# Altium footprint library Altium Example Master PCB Library End.PcbLib: 217 footprints (part 14 of 14)
Each footprint in its own frame and in the unit in brackets; x right, y up, seen from the top. Pads: shape width x height; smd on the part's side, far side on the other; paste and mask are expansions set on the pad; w line width, h text height; cw(c..) or ccw(c..) is an arc to the next point about the centre after c.
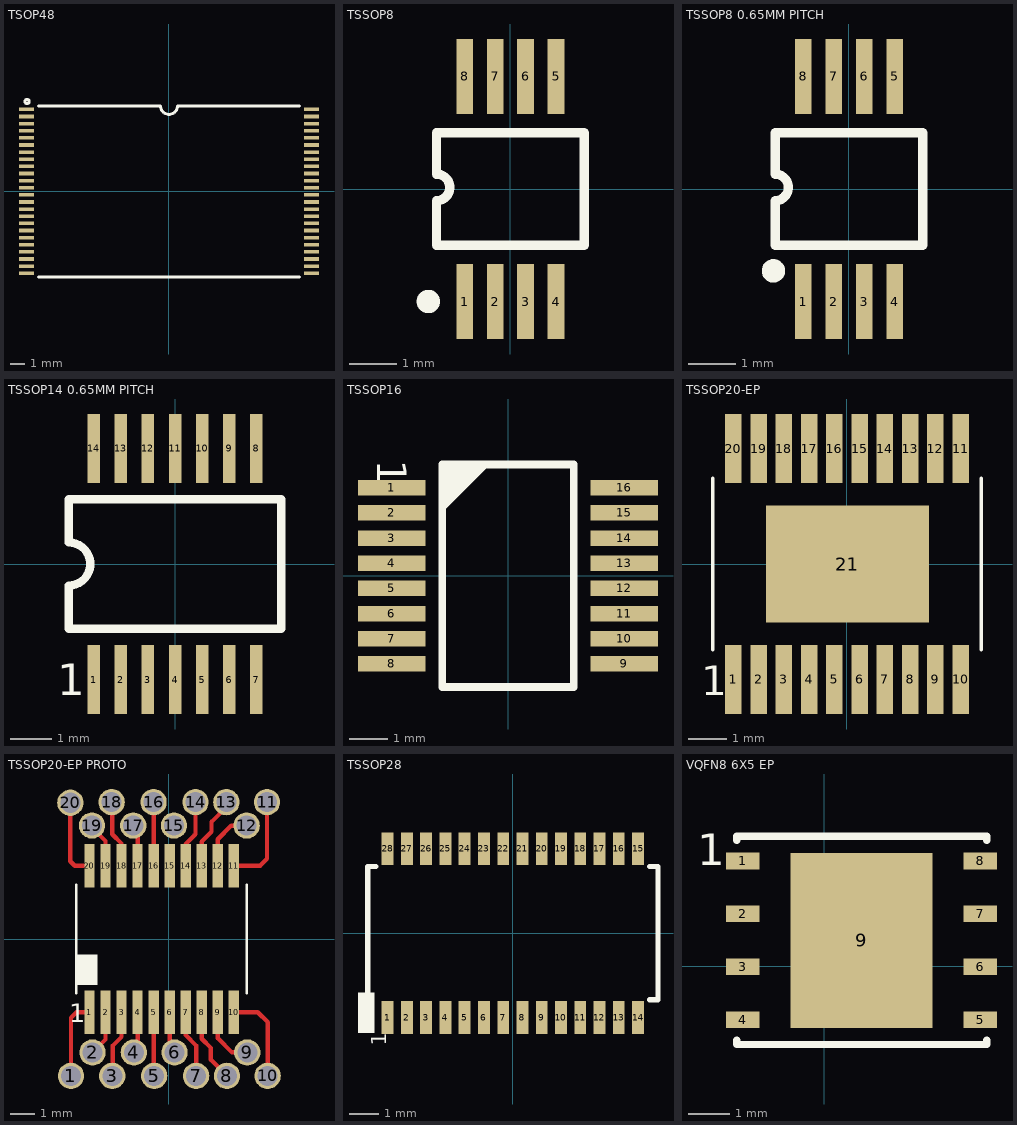
[diagram p13: the footprints below, top view; thin cyan lines are the x and y axes]

## TSOP48 [mm]
pads (48):
  rect 1.05x0.254 smd: 1(-9.99,5.747) 2(-9.99,5.247) 3(-9.99,4.747) 4(-9.99,4.247) 5(-9.99,3.747) 6(-9.99,3.247) 7(-9.99,2.747) 8(-9.99,2.247) 9(-9.99,1.747) 10(-9.99,1.247) 11(-9.99,0.747) 12(-9.99,0.247) 13(-9.99,-0.253) 14(-9.99,-0.753) 15(-9.99,-1.253) 16(-9.99,-1.753) 17(-9.99,-2.253) 18(-9.99,-2.753) 19(-9.99,-3.253) 20(-9.99,-3.753) 21(-9.99,-4.253) 22(-9.99,-4.753) 23(-9.99,-5.253) 24(-9.99,-5.753) 25(10.011,-5.753) 26(10.011,-5.253) 27(10.011,-4.753) 28(10.011,-4.253) 29(10.011,-3.753) 30(10.011,-3.253) 31(10.011,-2.753) 32(10.011,-2.253) 33(10.011,-1.753) 34(10.011,-1.253) 35(10.011,-0.753) 36(10.011,-0.253) 37(10.011,0.247) 38(10.011,0.747) 39(10.011,1.247) 40(10.011,1.747) 41(10.011,2.247) 42(10.011,2.747) 43(10.011,3.247) 44(10.011,3.747) 45(10.011,4.247) 46(10.011,4.747) 47(10.011,5.247) 48(10.011,5.747)
Top Overlay:
  circle w0.203: c-9.95,6.3 r0.15
  lines w0.203: -9.139,-6.003 9.16,-6.003 ; -9.139,5.997 -0.589,5.997 ccw(c0.011,5.997) 0.61,5.997 9.16,5.997

## TSSOP8 [mm]
pads (8):
  rect 0.356x1.6 smd: 1(-0.975,-2.4) 2(-0.325,-2.4) 3(0.325,-2.4) 4(0.975,-2.4) 5(0.975,2.4) 6(0.325,2.4) 7(-0.325,2.4) 8(-0.975,2.4)
Top Overlay:
  circle w0.25: c-1.75,-2.4 r0.125
  lines w0.2: -1.575,-1.2 1.575,-1.2 1.575,0.5 1.575,1.2 -1.575,1.2 -1.575,0.317 cw(c-1.575,0.033) -1.575,-0.25 -1.575,-1.2

## TSSOP8 0.65MM PITCH [mm]
pads (8):
  rect 0.356x1.6 smd: 1(-0.975,-2.4) 2(-0.325,-2.4) 3(0.325,-2.4) 4(0.975,-2.4) 5(0.975,2.4) 6(0.325,2.4) 7(-0.325,2.4) 8(-0.975,2.4)
Top Overlay:
  circle w0.25: c-1.61,-1.747 r0.125
  lines w0.2: -1.575,-1.2 1.575,-1.2 1.575,0.5 1.575,1.2 -1.575,1.2 -1.575,0.317 cw(c-1.575,0.033) -1.575,-0.25 -1.575,-1.2

## TSSOP14 0.65MM PITCH [mm]
pads (14):
  rect 0.3x1.65 smd: 1(-1.95,-2.775) 2(-1.3,-2.775) 3(-0.65,-2.775) 4(0,-2.775) 5(0.65,-2.775) 6(1.3,-2.775) 7(1.95,-2.775) 8(1.95,2.775) 9(1.3,2.775) 10(0.65,2.775) 11(0,2.775) 12(-0.65,2.775) 13(-1.3,2.775) 14(-1.95,2.775)
Top Overlay:
  lines w0.2: -2.55,-1.55 2.55,-1.55 2.55,1.55 -2.55,1.55 -2.55,0.517 cw(c-2.55,0) -2.55,-0.517 -2.55,-1.55
  text "1" at -2.825,-3.15 h0.76

## TSSOP16 [mm]
pads (16):
  rect 1.75x0.4 smd: 1(-3,2.275) 2(-3,1.625) 3(-3,0.975) 4(-3,0.325) 5(-3,-0.325) 6(-3,-0.975) 7(-3,-1.625) 8(-3,-2.275) 9(3,-2.275) 10(3,-1.625) 11(3,-0.975) 12(3,-0.325) 13(3,0.325) 14(3,0.975) 15(3,1.625) 16(3,2.275)
Top Overlay:
  lines w0.178: -1.7,1.9 -1.7,2 -0.875,2.825 -1.125,2.825 -1.65,2.3 -1.65,2.575 -1.525,2.575 -1.35,2.75 -1.55,2.75 -1.6,2.7
  lines w0.203: -1.7,1.775 -0.6,2.875 ; -1.7,-2.875 -1.7,2.875 1.7,2.875 1.7,-2.875 -1.7,-2.875
  text "1" at -3.375,3 h0.76

## TSSOP20-EP [mm]
pads (21):
  rect 0.42x1.78 smd: 1(-2.925,-2.97) 2(-2.275,-2.97) 3(-1.625,-2.97) 4(-0.975,-2.97) 5(-0.325,-2.97) 6(0.325,-2.97) 7(0.975,-2.97) 8(1.625,-2.97) 9(2.275,-2.97) 10(2.925,-2.97) 11(2.925,2.97) 12(2.275,2.97) 13(1.625,2.97) 14(0.975,2.97) 15(0.325,2.97) 16(-0.325,2.97) 17(-0.975,2.97) 18(-1.625,2.97) 19(-2.275,2.97) 20(-2.925,2.97)
  rect 4.2x3 smd: 21(0.01,0)
Top Overlay:
  lines w0.1: -3.454,-2.2 -3.454,0 -3.454,2.2 ; 3.454,-2.2 3.454,0 3.454,2.2
  text "1" at -3.75,-3.375 h0.76

## TSSOP20-EP PROTO [mm]
pads (40):
  round 1.067 hole 0.813: 1(-3.975,-5.55) 2(-3.1,-4.6) 3(-2.3,-5.55) 4(-1.425,-4.6) 5(-0.6,-5.55) 6(0.225,-4.6) 7(1.1,-5.55) 8(2.35,-5.55) 9(3.175,-4.6) 10(4,-5.55) 11(3.975,5.55) 12(3.15,4.6) 13(2.325,5.55) 14(1.075,5.55) 15(0.2,4.6) 16(-0.625,5.55) 17(-1.45,4.6) 18(-2.325,5.55) 19(-3.125,4.6) 20(-4,5.525)
  rect 0.42x1.78 smd paste-100: 1(-3.225,-2.97) 2(-2.575,-2.97) 3(-1.925,-2.97) 4(-1.275,-2.97) 5(-0.625,-2.97) 6(0.025,-2.97) 7(0.675,-2.97) 8(1.325,-2.97) 9(1.975,-2.97) 10(2.625,-2.97) 11(2.625,2.97) 12(1.975,2.97) 13(1.325,2.97) 14(0.675,2.97) 15(0.025,2.97) 16(-0.625,2.97) 17(-1.275,2.97) 18(-1.925,2.97) 19(-2.575,2.97) 20(-3.225,2.97)
Top Layer:
  lines w0.178: -4,5.525 -4,3.15 -3.82,2.97 -3.225,2.97 ; -3.975,-5.55 -3.975,-3.195 -3.75,-2.97 -3.225,-2.97 ; -3.125,4.6 -3.125,4.525 -2.575,3.975 -2.575,2.97 ; -3.1,-4.6 -2.575,-4.075 -2.575,-2.97 ; -2.3,-5.55 -2.275,-5.525 -2.275,-4.32 -1.925,-3.97 -1.925,-2.97 ; -2.3,5.525 -2.3,4.25 -1.925,3.875 -1.925,2.97 ; -1.45,4.6 -1.275,4.425 -1.275,2.97 ; -1.425,-4.6 -1.275,-4.45 -1.275,-2.97 ; -0.625,-5.525 -0.625,-2.97 ; -0.625,2.97 -0.625,4.4 -0.625,5.55 ; 0.025,-2.97 0.025,-4.4 0.225,-4.6 ; 0.675,-2.97 0.675,-3.895 1.1,-4.32 1.1,-5.55 ; 0.675,2.97 0.675,3.85 1.025,4.2 1.075,4.25 1.075,5.55 ; 1.325,-2.97 1.325,-3.995 1.325,-4.045 1.7,-4.42 1.7,-4.9 2.35,-5.55 ; 1.325,2.97 1.325,3.925 1.325,3.95 1.725,4.35 1.725,4.75 2.325,5.35 2.325,5.55 ; 1.975,-2.97 1.975,-4.02 2.555,-4.6 3.175,-4.6 ; 1.975,2.97 1.975,4.05 2.525,4.6 3.15,4.6 ; 2.625,-2.97 3.6,-2.97 4,-3.37 4,-5.55 ; 2.625,2.97 3.695,2.97 3.975,3.25 3.975,5.55
Top Overlay:
  rectangle: -3.725,-1.875 -2.9,-0.625
  lines w0.1: -3.754,-2.2 -3.754,0 -3.754,2.2 ; 3.154,-2.2 3.154,0 3.154,2.2
  text "1" at -4.05,-3.375 h0.76

## TSSOP28 [mm]
pads (28):
  rect 0.4x1.1 smd: 1(-4.225,-2.85) 2(-3.575,-2.85) 3(-2.925,-2.85) 4(-2.275,-2.85) 5(-1.625,-2.85) 6(-0.975,-2.85) 7(-0.325,-2.85) 8(0.325,-2.85) 9(0.975,-2.85) 10(1.625,-2.85) 11(2.275,-2.85) 12(2.925,-2.85) 13(3.575,-2.85) 14(4.225,-2.85) 15(4.225,2.85) 16(3.575,2.85) 17(2.925,2.85) 18(2.275,2.85) 19(1.625,2.85) 20(0.975,2.85) 21(0.325,2.85) 22(-0.325,2.85) 23(-0.975,2.85) 24(-1.625,2.85) 25(-2.275,2.85) 26(-2.925,2.85) 27(-3.575,2.85) 28(-4.225,2.85)
Top Overlay:
  rectangle: -5.225,-3.375 -4.675,-2
  lines w0.178: -4.9,-2.25 -4.9,2.25 -4.625,2.25 ; 4.625,-2.25 4.9,-2.25 4.9,2.25 4.625,2.25
  text "1" at -4.275,-3.8 h0.51

## VQFN8 6X5 EP [mm]
pads (9):
  rect 0.8x0.4 smd: 1(-1.95,2.53) 2(-1.95,1.26) 3(-1.95,-0.01) 4(-1.95,-1.28) 5(3.75,-1.28) 6(3.75,-0.01) 7(3.75,1.26) 8(3.75,2.53)
  rect 3.4x4.2 smd: 9(0.9,0.625)
Top Overlay:
  lines w0.178: -2.1,-1.775 -2.1,-1.875 3.9,-1.875 3.9,-1.775 ; -2.1,3.025 -2.1,3.125 3.9,3.125 3.9,3.025
  text "1" at -3.05,2.425 h0.76